# Altium footprint library SHEET06.PcbLib: 64 footprints (part 3 of 4)
Each footprint in its own frame and in the unit in brackets; x right, y up, seen from the top. Pads: shape width x height; smd on the part's side, far side on the other; paste and mask are expansions set on the pad; w line width, h text height; cw(c..) or ccw(c..) is an arc to the next point about the centre after c.
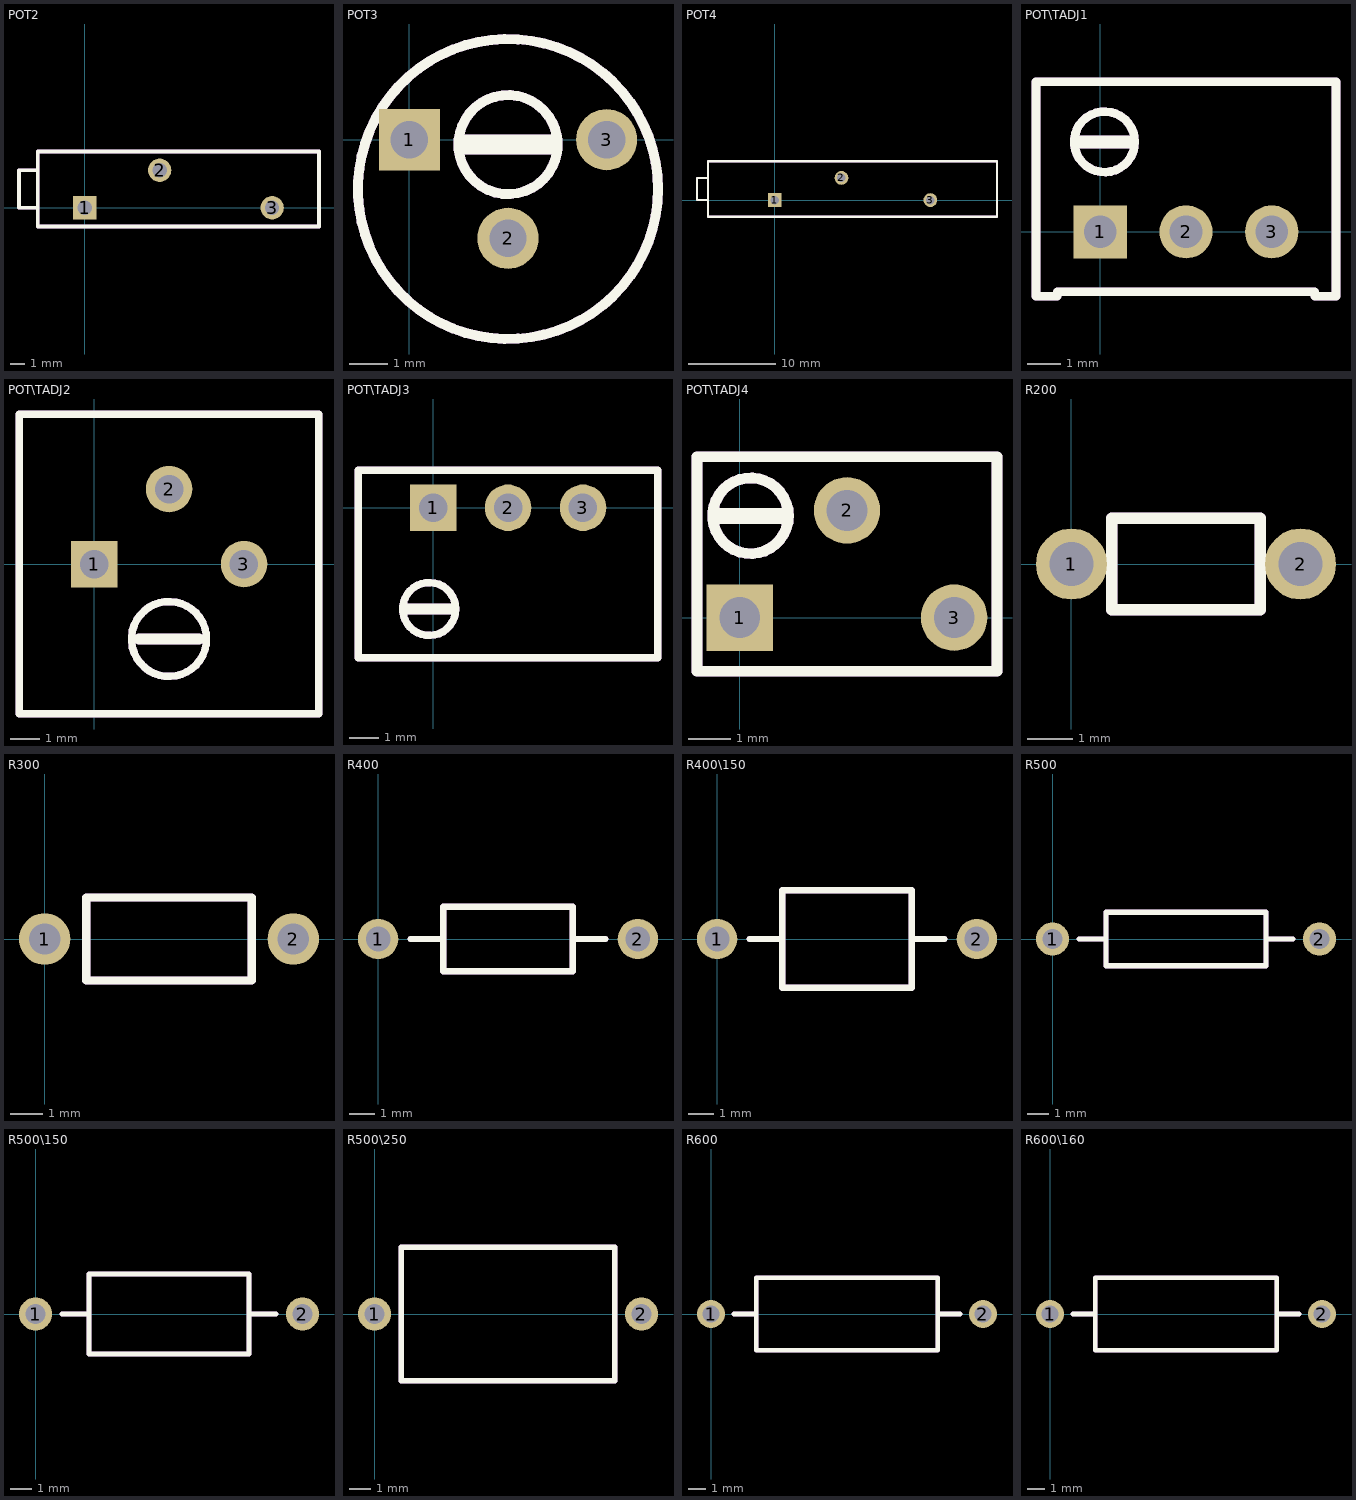
[diagram p2: the footprints below, top view; thin cyan lines are the x and y axes]

## POT2 [mil]
pads (3):
  rect 62x62 / inner round 62 / far side round 62 hole 38: 1(0,0)
  round 62 hole 38: 2(200,100) 3(500,0)
Top Overlay:
  lines w10: -125,0 -175,0 -175,100 -125,100 ; -125,-50 -125,150 625,150 625,-50 -125,-50
  text ".Designator" at 125,75 h60
Mechanical 1:
  lines w10: -125,0 -175,0 -175,100 -125,100 ; -125,-50 625,-50 625,150 -125,150 -125,-50
  text ".Designator" at 125,-50 h60
  text ".Pattern" at 0,-200 h60

## POT3 [mil]
pads (3):
  rect 62x62 / inner round 62 / far side round 62 hole 38: 1(0,0)
  round 62 hole 38: 2(100,-100) 3(200,0)
Top Overlay:
  circle w10: c100,-5 r50.25
  circle w10: c100,-50 r152.07
  lines w10: 50,-10 150,-10 ; 50,0 150,0
  text ".Designator" at 100,100 h60
Mechanical 1:
  circle w10: c100,-5 r50.25
  circle w10: c100,-50 r152.07
  lines w10: 50,-10 150,-10 ; 50,0 150,0
  text ".Pattern" at 0,-325 h60
  text ".Designator" at 125,-50 h60

## POT4 [mil]
pads (3):
  rect 62x62 / inner round 62 / far side round 62 hole 38: 1(0,0)
  round 62 hole 38: 2(300,100) 3(700,0)
Top Overlay:
  lines w10: -300,0 -350,0 -350,100 -300,100 ; -300,-75 -300,175 1000,175 1000,-75 -300,-75
  text ".Designator" at 125,150 h60
Mechanical 1:
  lines w10: -300,0 -350,0 -350,100 -300,100 ; -300,-75 -300,175 1000,175 1000,-75 -300,-75
  text ".Designator" at 125,-50 h60
  text ".Pattern" at 200,-200 h60

## POT\TADJ1 [mil]
pads (3):
  rect 62x62 / inner round 62 / far side round 62 hole 38: 1(0,0)
  round 62 hole 38: 2(100,0) 3(200,0)
Top Overlay:
  circle w10: c5,105 r35.36
  lines w10: -75,-75 -50,-75 -50,-70 250,-70 250,-75 275,-75 275,175 -75,175 -75,-75
  lines w15: -23,105 33,105
  text ".Designator" at -75,75 h60
Mechanical 1:
  circle w10: c5,105 r35.36
  lines w10: -75,-75 -75,175 275,175 275,-75 250,-75 250,-70 -50,-70 -50,-75 -75,-75
  lines w15: -23,105 33,105
  text ".Designator" at -75,75 h60
  text ".Pattern" at -100,-200 h60

## POT\TADJ2 [mil]
pads (3):
  rect 62x62 / inner round 62 / far side round 62 hole 38: 1(0,0)
  round 62 hole 38: 2(100,100) 3(200,0)
Top Overlay:
  circle w10: c100,-100 r50
  lines w10: -100,-200 -100,200 300,200 300,-200 -100,-200
  lines w15: 60,-100 140,-100
  text ".Designator" at -25,75 h60
Mechanical 1:
  circle w10: c100,-100 r50
  lines w10: -100,-200 -100,200 300,200 300,-200 -100,-200
  lines w15: 60,-100 140,-100
  text ".Designator" at -25,75 h60
  text ".Pattern" at -100,-325 h60

## POT\TADJ3 [mil]
pads (3):
  rect 62x62 / inner round 62 / far side round 62 hole 38: 1(0,0)
  round 62 hole 38: 2(100,0) 3(200,0)
Top Overlay:
  circle w10: c-5,-135 r35.36
  lines w10: -100,-200 -100,50 300,50 300,-200 -100,-200
  lines w15: -33,-135 23,-135
  text ".Designator" at 0,175 h60
Mechanical 1:
  circle w10: c-5,-135 r35.36
  lines w10: -100,-200 300,-200 300,50 -100,50 -100,-200
  lines w15: -33,-135 23,-135
  text ".Designator" at 0,175 h60
  text ".Pattern" at -75,-325 h60

## POT\TADJ4 [mil]
pads (3):
  rect 62x62 / inner round 62 / far side round 62 hole 38: 1(0,0)
  round 62 hole 38: 2(100,100) 3(200,0)
Top Overlay:
  circle w10: c10,95 r35.36
  lines w10: -40,-50 240,-50 240,150 -40,150 -40,-50
  lines w15: -18,95 38,95
  text ".Designator" at -100,225 h60
Mechanical 1:
  circle w10: c10,95 r35.36
  lines w10: -40,-50 240,-50 240,150 -40,150 -40,-50
  lines w15: -18,95 38,95
  text ".Designator" at -100,225 h60
  text ".Pattern" at 0,-200 h60

## R200 [mil]
pads (2):
  round 62 hole 38: 1(0,0) 2(200,0)
Top Overlay:
  lines w10: 35,-40 165,-40 165,40 35,40 35,-40
  text ".Designator" at -100,75 h60
Mechanical 1:
  lines w10: 35,-40 35,40 165,40 165,-40 35,-40
  text ".Designator" at -100,75 h60
  text ".Pattern" at 0,-200 h60

## R300 [mil]
pads (2):
  round 62 hole 38: 1(0,0) 2(300,0)
Top Overlay:
  lines w10: 50,-50 50,50 250,50 250,-50 50,-50
  text ".Designator" at 0,75 h60
Mechanical 1:
  lines w10: 50,-50 50,50 250,50 250,-50 50,-50
  text ".Designator" at 0,75 h60
  text ".Pattern" at 50,-175 h60

## R400 [mil]
pads (2):
  round 62 hole 38: 1(0,0) 2(400,0)
Top Overlay:
  lines w10: 50,0 100,0 ; 300,0 350,0 ; 100,-50 100,50 300,50 300,-50 100,-50
  text ".Designator" at -300,75 h60
Mechanical 1:
  lines w10: 50,0 100,0 ; 300,0 350,0 ; 100,-50 100,50 300,50 300,-50 100,-50
  text ".Designator" at -300,75 h60
  text ".Pattern" at 100,-175 h60

## R400\150 [mil]
pads (2):
  round 62 hole 38: 1(0,0) 2(400,0)
Top Overlay:
  lines w10: 50,0 100,0 ; 300,0 350,0 ; 100,-75 100,75 300,75 300,-75 100,-75
  text ".Designator" at -300,75 h60
Mechanical 1:
  lines w10: 50,0 100,0 ; 300,0 350,0 ; 100,-75 100,75 300,75 300,-75 100,-75
  text ".Designator" at -300,75 h60
  text ".Pattern" at 0,-200 h60

## R500 [mil]
pads (2):
  round 62 hole 38: 1(0,0) 2(500,0)
Top Overlay:
  lines w10: 50,0 100,0 ; 400,0 450,0 ; 100,-50 400,-50 400,50 100,50 100,-50
  text ".Designator" at 0,75 h60
Mechanical 1:
  lines w10: 50,0 100,0 ; 400,0 450,0 ; 100,-50 400,-50 400,50 100,50 100,-50
  text ".Designator" at 0,75 h60
  text ".Pattern" at 100,-175 h60

## R500\150 [mil]
pads (2):
  round 62 hole 38: 1(0,0) 2(500,0)
Top Overlay:
  lines w10: 50,0 100,0 ; 400,0 450,0 ; 100,-75 400,-75 400,75 100,75 100,-75
  text ".Designator" at 75,75 h60
Mechanical 1:
  lines w10: 50,0 100,0 ; 400,0 450,0 ; 100,-75 400,-75 400,75 100,75 100,-75
  text ".Designator" at 75,75 h60
  text ".Pattern" at 0,-200 h60

## R500\250 [mil]
pads (2):
  round 62 hole 38: 1(0,0) 2(500,0)
Top Overlay:
  lines w10: 50,-125 450,-125 450,125 50,125 50,-125
  text ".Designator" at -375,75 h60
Mechanical 1:
  lines w10: 50,-125 50,125 450,125 450,-125 50,-125
  text ".Designator" at -375,75 h60
  text ".Pattern" at 0,-250 h60

## R600 [mil]
pads (2):
  round 62 hole 38: 1(0,0) 2(600,0)
Top Overlay:
  lines w10: 50,0 100,0 ; 500,0 550,0 ; 100,-80 100,80 500,80 500,-80 100,-80
  text ".Designator" at 50,75 h60
Mechanical 1:
  lines w10: 50,0 100,0 ; 500,0 550,0 ; 100,-80 100,80 500,80 500,-80 100,-80
  text ".Designator" at 50,75 h60
  text ".Pattern" at 150,-200 h60

## R600\160 [mil]
pads (2):
  round 62 hole 38: 1(0,0) 2(600,0)
Top Overlay:
  lines w10: 50,0 100,0 ; 500,0 550,0 ; 100,-80 100,80 500,80 500,-80 100,-80
  text ".Designator" at -300,75 h60
Mechanical 1:
  lines w10: 50,0 100,0 ; 500,0 550,0 ; 100,-80 100,80 500,80 500,-80 100,-80
  text ".Pattern" at 100,-225 h60
  text ".Designator" at -300,75 h60